# Altium footprint library Other.PcbLib: 35 footprints (part 1 of 3)
Each footprint in its own frame and in the unit in brackets; x right, y up, seen from the top. Pads: shape width x height; smd on the part's side, far side on the other; paste and mask are expansions set on the pad; w line width, h text height; cw(c..) or ccw(c..) is an arc to the next point about the centre after c.
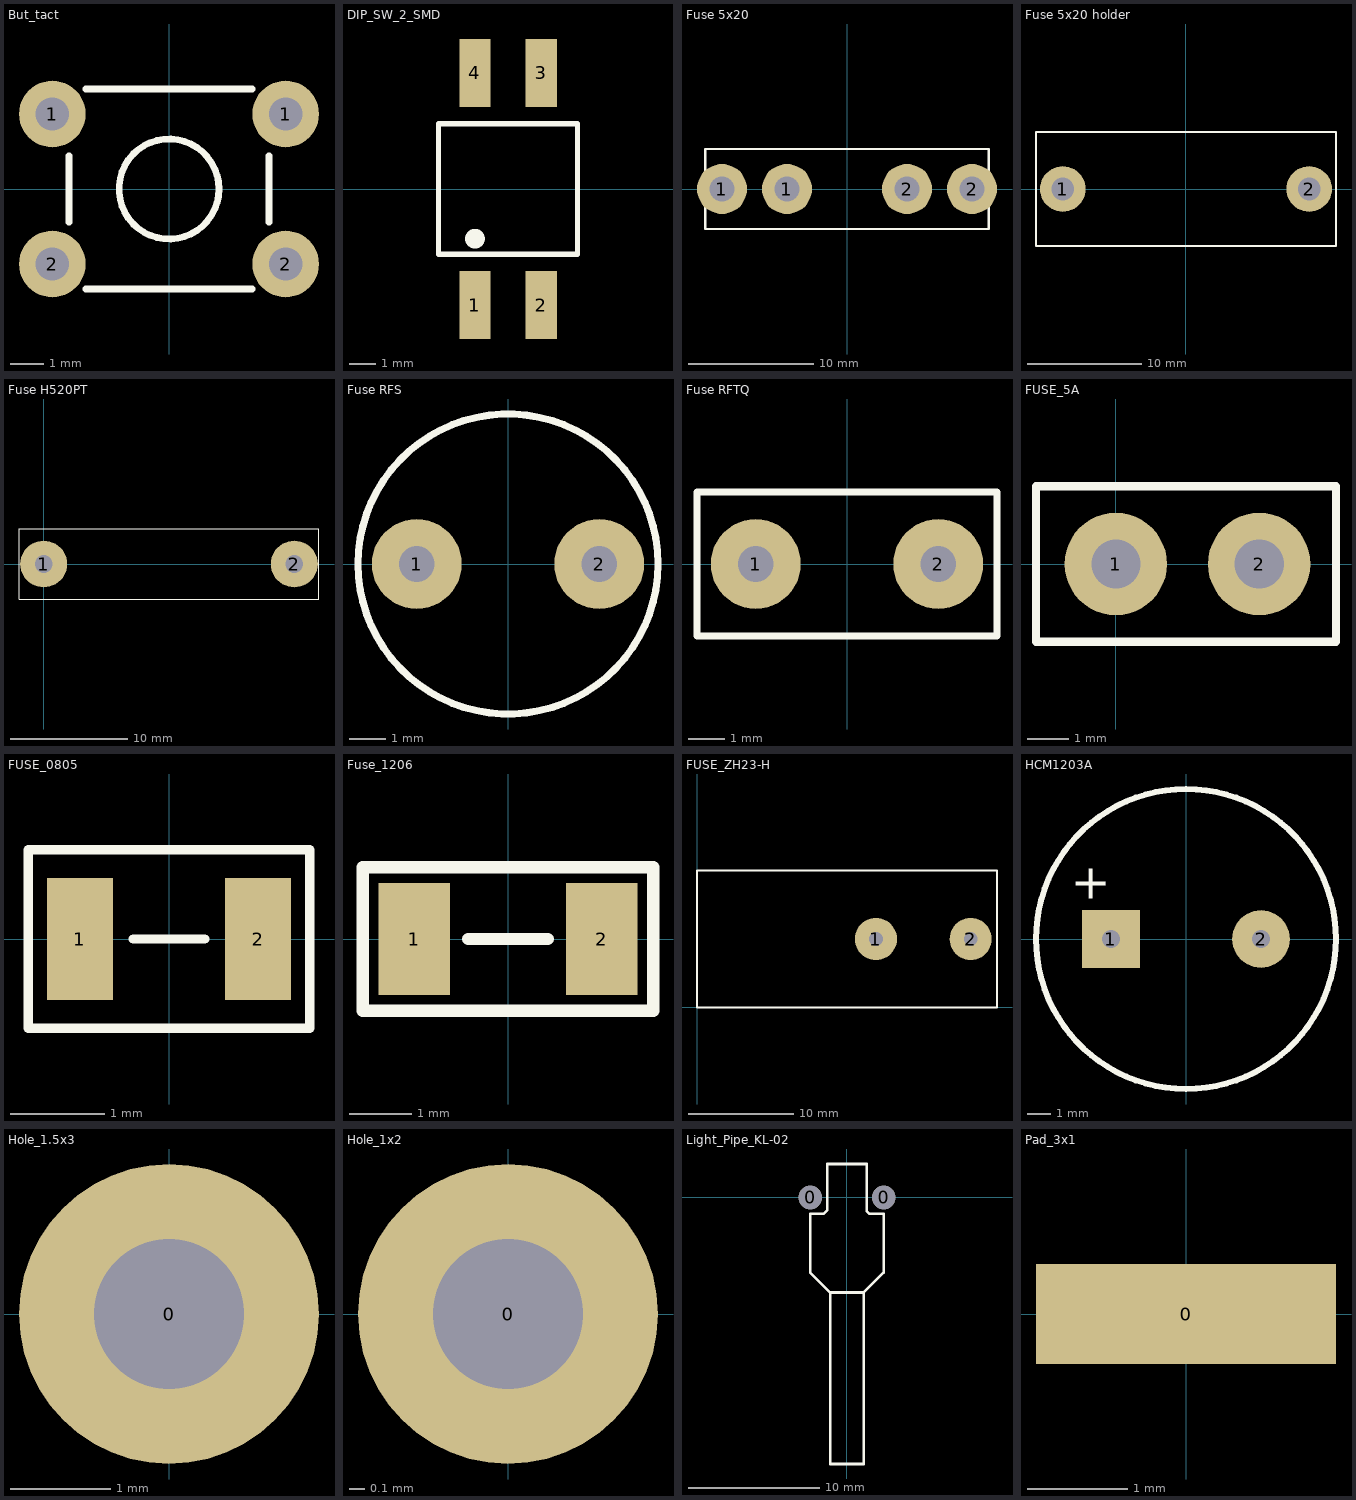
[diagram p0: the footprints below, top view; thin cyan lines are the x and y axes]

## But_tact [mm]
pads (4):
  round 2 hole 1: 1(-3.5,2.25) 1(3.5,2.25) 2(-3.5,-2.25) 2(3.5,-2.25)
Top Overlay:
  circle w0.2: c0,0 r1.5
  lines w0.2: -3,-1 -3,1 ; -2.5,-3 2.5,-3 ; -2.5,3 2.5,3 ; 3,-1 3,1
3D body "Tact_button.STEP": height 5.9, standoff -2.59, extent -3.984,-3 3.984,3

## DIP_SW_2_SMD [mm] "DIP Switch; 2 Leads"
height 5.06
pads (4):
  rect 1.2x2.6 smd: 1(-8.89,-4.45) 2(-6.35,-4.45) 3(-6.35,4.45) 4(-8.89,4.45)
Top Overlay:
  lines w0.2: -10.29,-2.5 -10.29,2.5 -4.953,2.5 -4.953,-2.5 -10.29,-2.5
  lines w0.5: -8.775,-1.85 ccw(c-8.889,-1.907) -8.762,-1.907

## Fuse 5x20 [mm] "5x20 mm"
height 5
pads (4):
  round 4 hole 2: 1(-10,0) 1(-4.8,0) 2(4.8,0) 2(10,0)
Top Overlay:
  lines w0.2: -11.325,-3.2 -11.325,3.2 11.35,3.2 11.35,-3.2 -11.325,-3.2
3D body "Fuse 5x20.STEP": height 8.7, standoff 3.7, extent -9.75,-2.5 10.25,2.5
3D body "FuseClip2.STEP": height 9.6, standoff -3.3, extent 4.452,-3.096 10.548,3.095
3D body "FuseClip2.STEP": height 9.6, standoff -3.3, extent -10.548,-3.095 -4.452,3.096

## Fuse 5x20 holder [mm] "5x20 mm"
height 10.8
pads (2):
  round 4 hole 2: 1(-10.8,0) 2(10.8,0)
Top Overlay:
  lines w0.2: -13.15,-5 -13.15,5 13.15,5 13.15,-5 -13.15,-5
3D body "Fuse MF563.STEP": height 12.5, standoff -2.81, extent -12.3,-4.75 12.2,4.75

## Fuse H520PT [mm] "5x20 mm"
height 5
pads (2):
  round 4 hole 1.5: 1(0,0) 2(21.4,0)
Top Overlay:
  lines w0.1: -2.1,-3 -2.1,3 6,3 16,3 23.5,3 23.5,-3 16,-3 6,-3 -2.1,-3

## Fuse RFS [mm]
height 7.7
pads (2):
  round 2.5 hole 1: 1(-2.54,0) 2(2.54,0)
Top Overlay:
  circle w0.2: c0,0 r4.175
3D body "FUSE_RFS.STEP": height 8, standoff -4.3, extent -4.244,-4.25 4.244,4.25

## Fuse RFTQ [mm]
height 7.7
pads (2):
  round 2.5 hole 1: 1(-2.54,0) 2(2.54,0)
Top Overlay:
  lines w0.2: -4.175,-2 4.175,-2 4.175,2 -4.175,2 -4.175,-2
3D body: height 1, standoff -2, extent 2.242,-0.299 2.84,0.3
3D body: height 1, standoff -2, extent -2.838,-0.299 -2.24,0.3
3D body: height 7.7, standoff 0.2, extent -4.175,-2 4.175,2

## FUSE_5A [mm]
pads (2):
  round 2.5 hole 1.2: 1(0,0) 2(3.5,0)
Top Overlay:
  lines w0.2: -1.95,-1.9 -1.95,1.9 5.375,1.9 5.375,-1.9 -1.95,-1.9

## FUSE_0805 [mm] "Resistor Pattern"
height 1.27
pads (2):
  rect 0.7x1.3 smd: 1(-0.95,0) 2(0.95,0)
Top Overlay:
  lines w0.1: -0.381,0 0.381,0 ; -1.5,-0.95 1.5,-0.95 1.5,0.95 -1.5,0.95 -1.5,-0.95
Mechanical 13:
  lines w0.1: -1,-0.6 -1,0.6 ; 1,-0.6 1,0.6

## Fuse_1206 [mm]
height 1.524
pads (2):
  rect 1.15x1.8 smd: 1(-1.5,0) 2(1.5,0)
Top Overlay:
  lines w0.2: -0.635,0 0.635,0 ; -2.325,-1.15 -2.325,1.15 2.325,1.15 2.325,-1.15 -2.325,-1.15

## FUSE_ZH23-H [mm] "5x20 mm"
height 11.7
pads (2):
  round 4 hole 1.3: 1(17,6.5) 2(26,6.5)
Top Overlay:
  lines w0.2: 0,0 0,13 28.5,13 28.5,0 0,0
3D body "Fuse Holder PCB 20x5.STEP": height 11.74, standoff 0.04, extent -5,0 33,13

## HCM1203A [mm] "D=12, h=9, d=0.6"
pads (2):
  rect 2.5x2.5 hole 0.8: 1(-3.25,0)
  round 2.5 hole 0.8: 2(3.25,0)
Top Overlay:
  circle w0.254: c0,0 r6.5
  text "+" at -5,1.75 h1.52
3D body "Buzzer_HCM1206X.STEP": height 9.5, standoff -6.5, extent -6,-6 5.986,6

## Hole_1.5x3 [mm]
pads (1):
  round 3 hole 1.5: 0(0,0)

## Hole_1x2 [mm]
pads (1):
  round 2 hole 1: 0(0,0)

## Light_Pipe_KL-02 [mm]
pads (2):
  round 1.78 hole 1.8: 0(-2.795,0) 0(2.795,0)
Top Overlay:
  lines w0.2: -1.295,-7.25 -2.795,-5.75 -2.795,-1.25 -1.795,-1.25 -1.5,-0.955 -1.5,2.55 1.5,2.55 1.5,-1.045 1.705,-1.25 2.795,-1.25 2.795,-5.725 1.27,-7.25 ; 1.27,-7.25 -1.27,-7.25 -1.27,-20.32 1.27,-20.32 1.27,-7.25
3D body "Light_Pipe_Kingbright KL-02.STEP": height 10.93, standoff -2.47, extent -3.808,-20.32 3.808,2.54

## Pad_3x1 [mm]
pads (1):
  rect 3x1 smd: 0(0,0)